# EAGLE library part TDA8425 (library Alek)
I2C bus controlled Audio HiFi Sound Processor
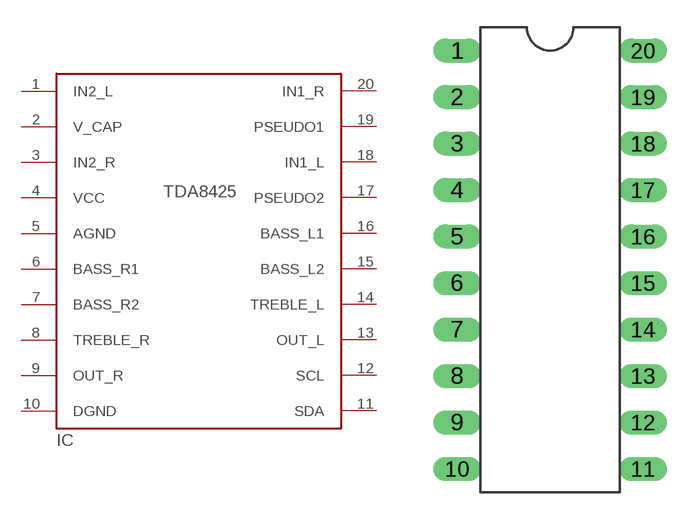
[diagram p0: symbol with the pads of DIL20; footprint DIL20]

Designator prefix IC

## TDA8425  [DIL20]
1  IN2_L
2  V_CAP
3  IN2_R
4  VCC
5  AGND
6  BASS_R1
7  BASS_R2
8  TREBLE_R
9  OUT_R
10  DGND
11  SDA
12  SCL
13  OUT_L
14  TREBLE_L
15  BASS_L2
16  BASS_L1
17  PSEUDO2
18  IN1_L
19  PSEUDO1
20  IN1_R

## Footprint DIL20 (pad centres in mm)
DIL20
drill 0.813 long: 1 -8.89,11.43; 2 -8.89,8.89; 3 -8.89,6.35; 4 -8.89,3.81; 5 -8.89,1.27; 6 -8.89,-1.27; 7 -8.89,-3.81; 8 -8.89,-6.35; 9 -8.89,-8.89; 10 -8.89,-11.43; 11 1.27,-11.43; 12 1.27,-8.89; 13 1.27,-6.35; 14 1.27,-3.81; 15 1.27,-1.27; 16 1.27,1.27; 17 1.27,3.81; 18 1.27,6.35; 19 1.27,8.89; 20 1.27,11.43